# EAGLE library part QSE-060-01-X-D-A (library con-samtec-qte-qse)
HEADER
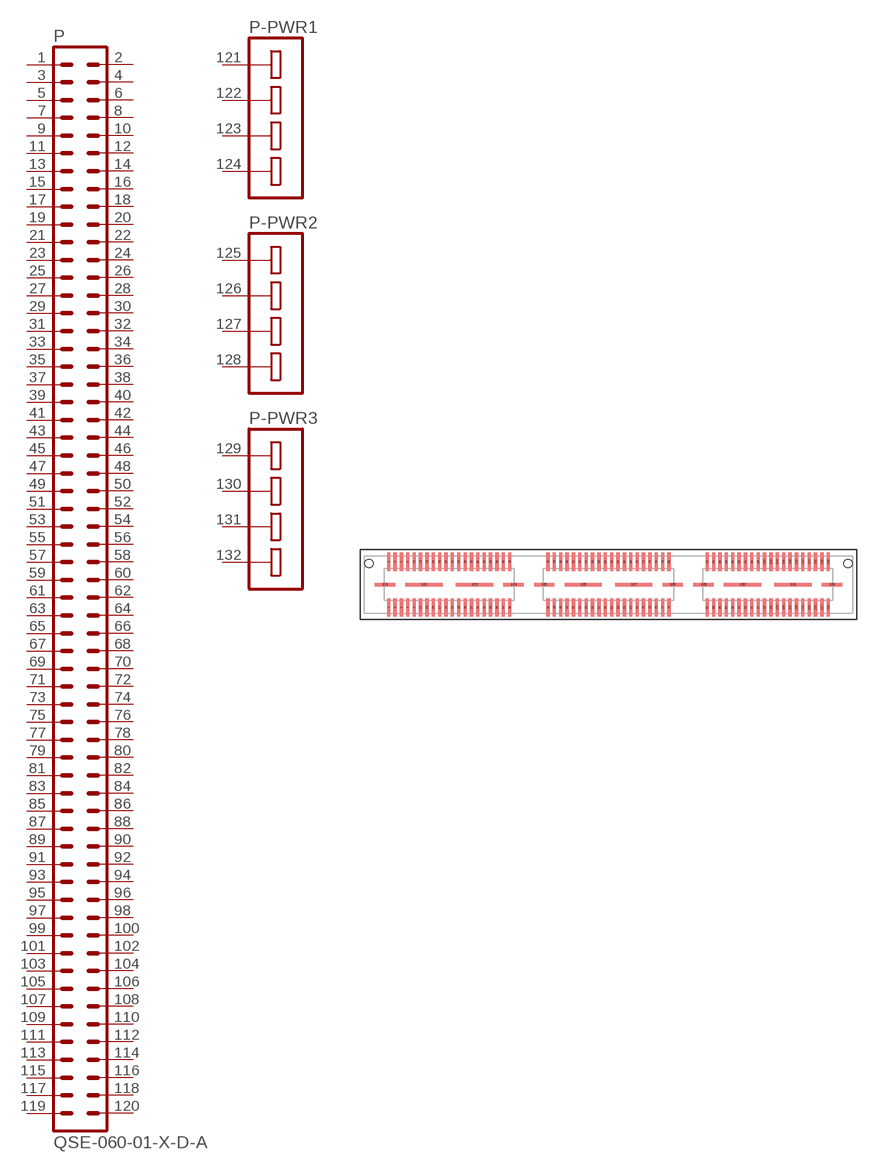
[diagram p2: symbol with the pads of QSE-060-01-X-D-A; footprint QSE-060-01-X-D-A]

Designator prefix P; gates G$1=MA60-2 -PWR1=PB-4 -PWR2=PB-4 -PWR3=PB-4

## QSE-060-01-X-D-A  [QSE-060-01-X-D-A]
1  G$1:1  pas
2  G$1:2  pas
3  G$1:3  pas
4  G$1:4  pas
5  G$1:5  pas
6  G$1:6  pas
7  G$1:7  pas
8  G$1:8  pas
9  G$1:9  pas
10  G$1:10  pas
11  G$1:11  pas
12  G$1:12  pas
13  G$1:13  pas
14  G$1:14  pas
15  G$1:15  pas
16  G$1:16  pas
17  G$1:17  pas
18  G$1:18  pas
19  G$1:19  pas
20  G$1:20  pas
21  G$1:21  pas
22  G$1:22  pas
23  G$1:23  pas
24  G$1:24  pas
25  G$1:25  pas
26  G$1:26  pas
27  G$1:27  pas
28  G$1:28  pas
29  G$1:29  pas
30  G$1:30  pas
31  G$1:31  pas
32  G$1:32  pas
33  G$1:33  pas
34  G$1:34  pas
35  G$1:35  pas
36  G$1:36  pas
37  G$1:37  pas
38  G$1:38  pas
39  G$1:39  pas
40  G$1:40  pas
41  G$1:41  pas
42  G$1:42  pas
43  G$1:43  pas
44  G$1:44  pas
45  G$1:45  pas
46  G$1:46  pas
47  G$1:47  pas
48  G$1:48  pas
49  G$1:49  pas
50  G$1:50  pas
51  G$1:51  pas
52  G$1:52  pas
53  G$1:53  pas
54  G$1:54  pas
55  G$1:55  pas
56  G$1:56  pas
57  G$1:57  pas
58  G$1:58  pas
59  G$1:59  pas
60  G$1:60  pas
61  G$1:61  pas
62  G$1:62  pas
63  G$1:63  pas
64  G$1:64  pas
65  G$1:65  pas
66  G$1:66  pas
67  G$1:67  pas
68  G$1:68  pas
69  G$1:69  pas
70  G$1:70  pas
71  G$1:71  pas
72  G$1:72  pas
73  G$1:73  pas
74  G$1:74  pas
75  G$1:75  pas
76  G$1:76  pas
77  G$1:77  pas
78  G$1:78  pas
79  G$1:79  pas
80  G$1:80  pas
81  G$1:81  pas
82  G$1:82  pas
83  G$1:83  pas
84  G$1:84  pas
85  G$1:85  pas
86  G$1:86  pas
87  G$1:87  pas
88  G$1:88  pas
89  G$1:89  pas
90  G$1:90  pas
91  G$1:91  pas
92  G$1:92  pas
93  G$1:93  pas
94  G$1:94  pas
95  G$1:95  pas
96  G$1:96  pas
97  G$1:97  pas
98  G$1:98  pas
99  G$1:99  pas
100  G$1:100  pas
101  G$1:101  pas
102  G$1:102  pas
103  G$1:103  pas
104  G$1:104  pas
105  G$1:105  pas
106  G$1:106  pas
107  G$1:107  pas
108  G$1:108  pas
109  G$1:109  pas
110  G$1:110  pas
111  G$1:111  pas
112  G$1:112  pas
113  G$1:113  pas
114  G$1:114  pas
115  G$1:115  pas
116  G$1:116  pas
117  G$1:117  pas
118  G$1:118  pas
119  G$1:119  pas
120  G$1:120  pas
121  -PWR1:1  pas
122  -PWR1:2  pas
123  -PWR1:3  pas
124  -PWR1:4  pas
125  -PWR2:1  pas
126  -PWR2:2  pas
127  -PWR2:3  pas
128  -PWR2:4  pas
129  -PWR3:1  pas
130  -PWR3:2  pas
131  -PWR3:3  pas
132  -PWR3:4  pas

## Footprint QSE-060-01-X-D-A (pad centres in mm)
QSE SERIES SOCKET Pitch 0.8mm, Double Row
smd 0.406 x 2.273: 1 -27.605,-2.865; 2 -27.605,2.865; 3 -26.805,-2.865; 4 -26.805,2.865; 5 -26.005,-2.865; 6 -26.005,2.865; 7 -25.204,-2.865; 8 -25.204,2.865; 9 -24.404,-2.865; 10 -24.404,2.865; 11 -23.604,-2.865; 12 -23.604,2.865; 13 -22.804,-2.865; 14 -22.804,2.865; 15 -22.004,-2.865; 16 -22.004,2.865; 17 -21.204,-2.865; 18 -21.204,2.865; 19 -20.404,-2.865; 20 -20.404,2.865; 21 -19.604,-2.865; 22 -19.604,2.865; 23 -18.804,-2.865; 24 -18.804,2.865; 25 -18.003,-2.865; 26 -18.003,2.865; 27 -17.203,-2.865; 28 -17.203,2.865; 29 -16.403,-2.865; 30 -16.403,2.865; 31 -15.603,-2.865; 32 -15.603,2.865; 33 -14.803,-2.865; 34 -14.803,2.865; 35 -14.003,-2.865; 36 -14.003,2.865; 37 -13.203,-2.865; 38 -13.203,2.865; 39 -12.403,-2.865; 40 -12.403,2.865; 41 -7.602,-2.865; 42 -7.602,2.865; 43 -6.802,-2.865; 44 -6.802,2.865; 45 -6.002,-2.865; 46 -6.002,2.865; 47 -5.202,-2.865; 48 -5.202,2.865; 49 -4.402,-2.865; 50 -4.402,2.865; 51 -3.602,-2.865; 52 -3.602,2.865; 53 -2.802,-2.865; 54 -2.802,2.865; 55 -2.002,-2.865; 56 -2.002,2.865; 57 -1.201,-2.865; 58 -1.201,2.865; 59 -0.401,-2.865; 60 -0.401,2.865; 61 0.399,-2.865; 62 0.399,2.865; 63 1.199,-2.865; 64 1.199,2.865; 65 1.999,-2.865; 66 1.999,2.865; 67 2.799,-2.865; 68 2.799,2.865; 69 3.599,-2.865; 70 3.599,2.865; 71 4.399,-2.865; 72 4.399,2.865; 73 5.199,-2.865; 74 5.199,2.865; 75 6,-2.865; 76 6,2.865; 77 6.8,-2.865; 78 6.8,2.865; 79 7.6,-2.865; 80 7.6,2.865; 81 12.4,-2.865; 82 12.4,2.865; 83 13.2,-2.865; 84 13.2,2.865; 85 14.001,-2.865; 86 14.001,2.865; 87 14.801,-2.865; 88 14.801,2.865; 89 15.601,-2.865; 90 15.601,2.865; 91 16.401,-2.865; 92 16.401,2.865; 93 17.201,-2.865; 94 17.201,2.865; 95 18.001,-2.865; 96 18.001,2.865; 97 18.801,-2.865; 98 18.801,2.865; 99 19.601,-2.865; 100 19.601,2.865; 101 20.401,-2.865; 102 20.401,2.865; 103 21.201,-2.865; 104 21.201,2.865; 105 22.002,-2.865; 106 22.002,2.865; 107 22.802,-2.865; 108 22.802,2.865; 109 23.602,-2.865; 110 23.602,2.865; 111 24.402,-2.865; 112 24.402,2.865; 113 25.202,-2.865; 114 25.202,2.865; 115 26.002,-2.865; 116 26.002,2.865; 117 26.802,-2.865; 118 26.802,2.865; 119 27.602,-2.865; 120 27.602,2.865
smd 2.54 x 0.432: 121 -28.067,0; 124 -11.938,0; 125 -8.065,0; 128 8.065,0; 129 11.938,0; 132 28.067,0
smd 4.699 x 0.432: 122 -23.177,0; 123 -16.828,0; 126 -3.175,0; 127 3.175,0; 130 16.828,0; 131 23.177,0
hole 1.016 at -30.067,2.667
hole 1.016 at 30.067,2.667